# EAGLE library part SN74ALVC08D (library 31813 Neutron Readout PCB)
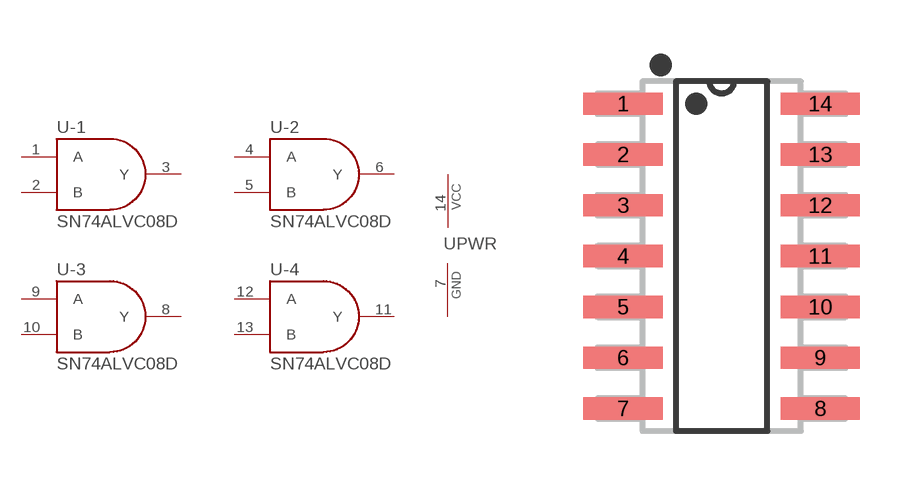
[diagram p21: symbol with the pads of D14; footprint D14]

Designator prefix U; gates -1=AND -2=AND -3=AND -4=AND PWR=PWRN

## SN74ALVC08D (DATASHEET_URL: http://www.ti.com/lit/gpn/SN74ALVC08; DESCRIPTION: Quadruple 2-Input Positive-AND Gate; FAMILY_NAME: AND GATE; GENERIC_PART_NUMBER: SN74ALVC08; INDUSTRY_STD_PKG_TYPE: SOIC; MANUFACTURER: Texas Instruments; MANUFACTURER_PART_NUMBER: SN74ALVC08D; PACKAGE_DESIGNATOR: D; PIN_COUNT: 14; VENDOR: Texas Instruments)  [D14]
1  -1:A  in
2  -1:B  in
3  -1:Y  out
4  -2:A  in
5  -2:B  in
6  -2:Y  out
7  PWR:GND  pwr
8  -3:Y  out
9  -3:A  in
10  -3:B  in
11  -4:Y  out
12  -4:A  in
13  -4:B  in
14  PWR:VCC  pwr

## Footprint D14 (pad centres in mm)
smd 1.981 x 0.559: 1 -2.464,3.81; 2 -2.464,2.54; 3 -2.464,1.27; 4 -2.464,0; 5 -2.464,-1.27; 6 -2.464,-2.54; 7 -2.464,-3.81; 8 2.464,-3.81; 9 2.464,-2.54; 10 2.464,-1.27; 11 2.464,0; 12 2.464,1.27; 13 2.464,2.54; 14 2.464,3.81